# EAGLE library part MBI5030 (library mbi5030)
Macroblock MBI5030 16-Channel PWM-Embedded LED Driver
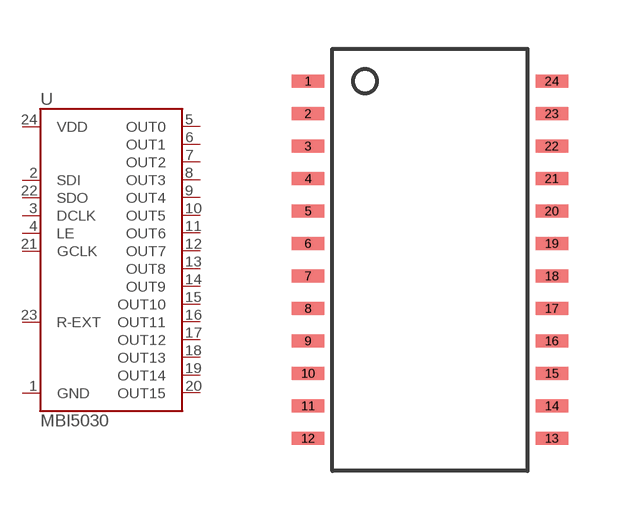
[diagram p0: symbol with the pads of SOP24; footprint SOP24]

Designator prefix -

## MBI5030GF  [SOP24]
1  GND
2  SDI
3  DCLK
4  LE
5  OUT0
6  OUT1
7  OUT2
8  OUT3
9  OUT4
10  OUT5
11  OUT6
12  OUT7
13  OUT8
14  OUT9
15  OUT10
16  OUT11
17  OUT12
18  OUT13
19  OUT14
20  OUT15
21  GCLK
22  SDO
23  R-EXT
24  VDD

## Footprint SOP24 (pad centres in mm)
smd 1 x 0.4: 1 -3.75,5; 2 -3.75,4; 3 -3.75,3; 4 -3.75,2; 5 -3.75,1; 6 -3.75,0; 7 -3.75,-1; 8 -3.75,-2; 9 -3.75,-3; 10 -3.75,-4; 11 -3.75,-5; 12 -3.75,-6; 13 3.75,-6; 14 3.75,-5; 15 3.75,-4; 16 3.75,-3; 17 3.75,-2; 18 3.75,-1; 19 3.75,0; 20 3.75,1; 21 3.75,2; 22 3.75,3; 23 3.75,4; 24 3.75,5